# EAGLE library part MCP2542FD-H/SN (library VaskoCustom)
MCP2542FD-H/SN CAN FD Transceiver
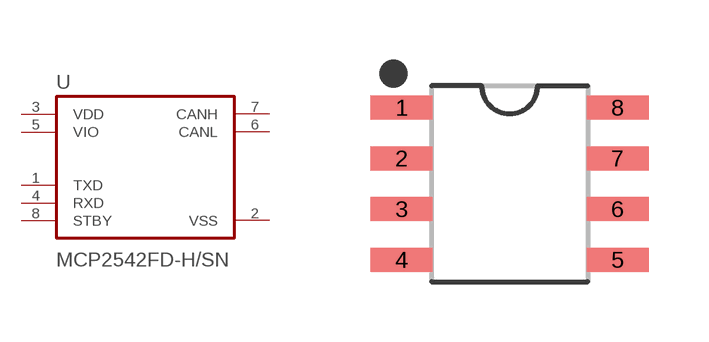
[diagram p1: symbol with the pads of 8-LEADSOIC; footprint 8-LEADSOIC]

Designator prefix U

## MCP2542FD-H/SN (VALUE: MCP2542FD-H/SN)  [8-LEADSOIC]
1  TXD  in
2  VSS  pwr
3  VDD  pwr
4  RXD  out
5  VIO  pwr
6  CANL
7  CANH
8  STBY  in

## Footprint 8-LEADSOIC (pad centres in mm)
8-Lead SOIC 8-Lead Plastic Small Outline (SN) - Narrow, 3.90 mm (.150 In.) Body [SOIC]
smd 1.55 x 0.6: 1 -2.7,1.905; 2 -2.7,0.635; 3 -2.7,-0.635; 4 -2.7,-1.905; 5 2.7,-1.905; 6 2.7,-0.635; 7 2.7,0.635; 8 2.7,1.905